# Altium footprint library MyLibrary.PcbLib: 19 footprints (part 1 of 2)
Each footprint in its own frame and in the unit in brackets; x right, y up, seen from the top. Pads: shape width x height; smd on the part's side, far side on the other; paste and mask are expansions set on the pad; w line width, h text height; cw(c..) or ccw(c..) is an arc to the next point about the centre after c.
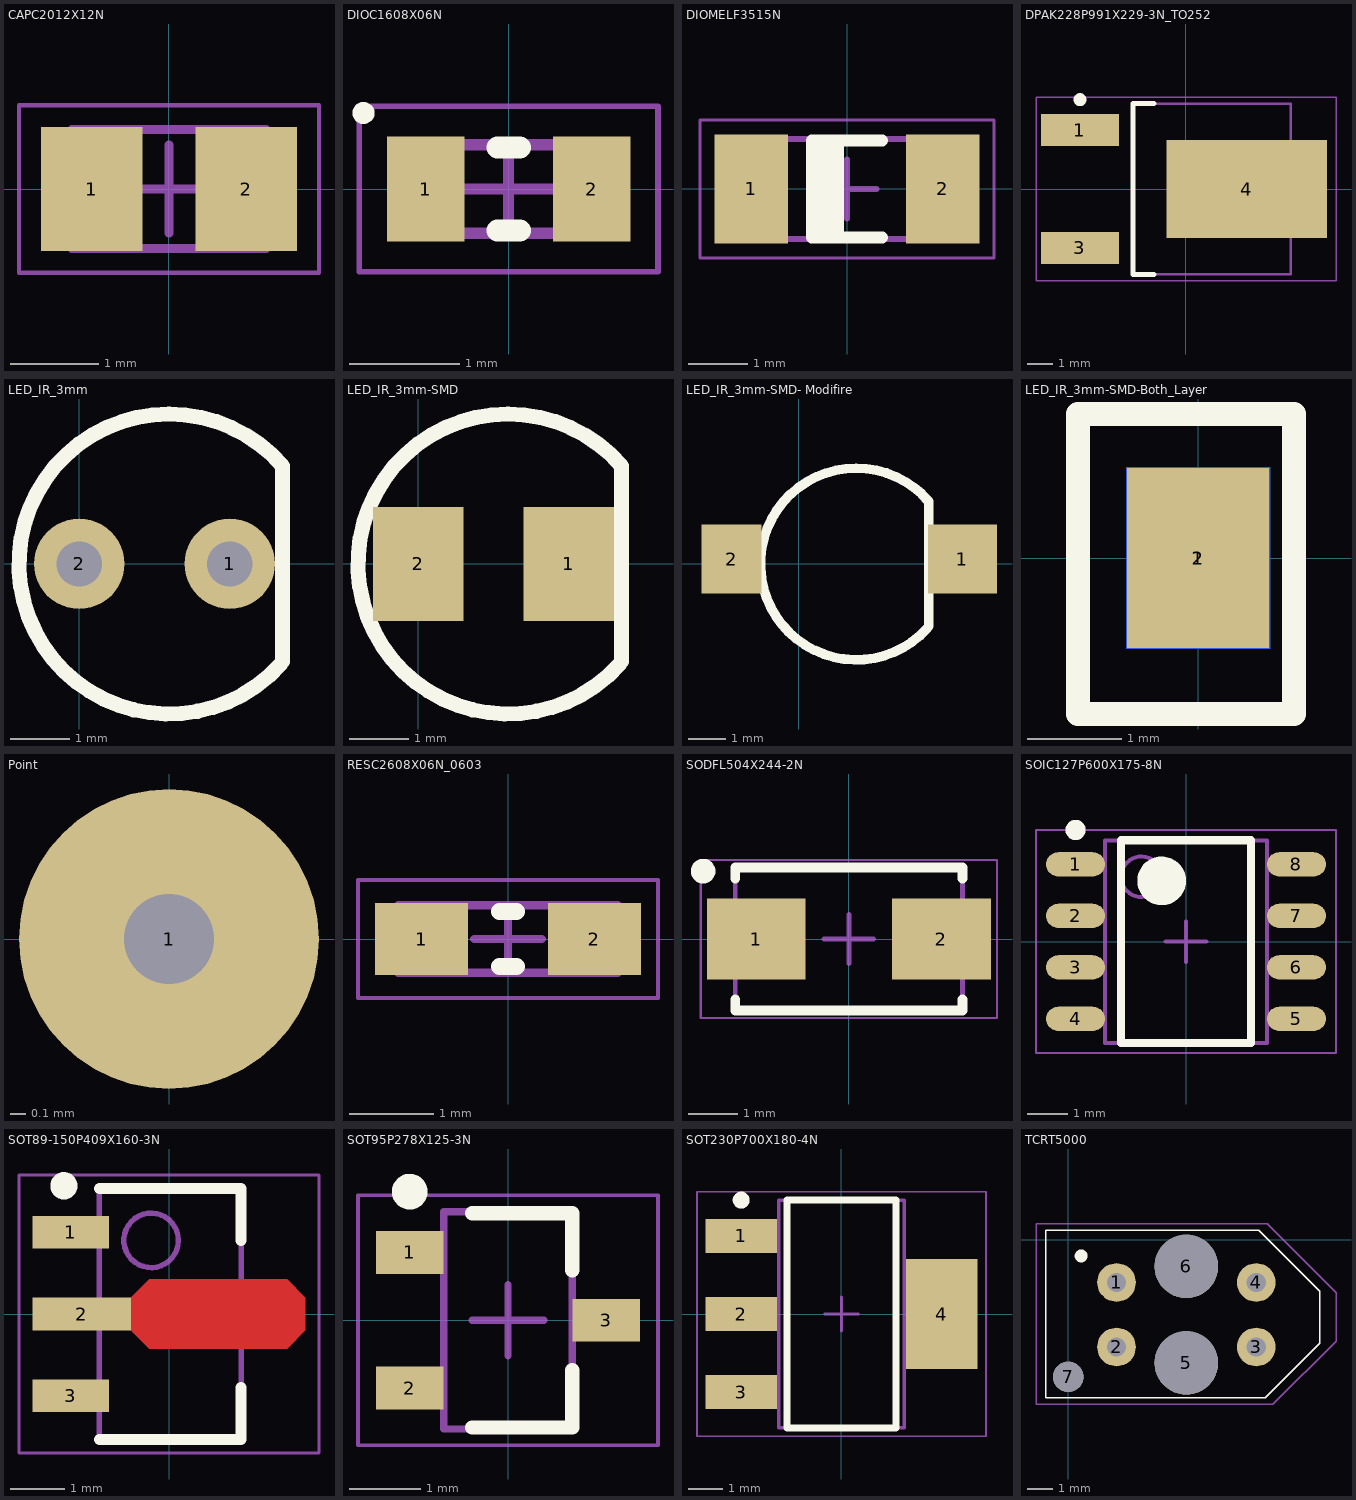
[diagram p0: the footprints below, top view; thin cyan lines are the x and y axes]

## CAPC2012X12N [mm] "Chip Capacitor, 2-Leads, Body 2.00x1.25mm, IPC Medium Density"
height 1.2
pads (2):
  rect 1.15x1.4 smd: 1(-0.875,0) 2(0.875,0)
Mechanical 13:
  lines w0.1: -1.1,-0.675 1.1,-0.675 1.1,0.675 -1.1,0.675 -1.1,-0.675
Mechanical 15:
  lines w0.05: -1.7,-0.95 1.7,-0.95 1.7,0.95 -1.7,0.95 -1.7,-0.95
  lines w0.1: -0.5,0 0.5,0 ; 0,-0.5 0,0.5
3D body: height 1.2, standoff 0, extent 0.6,-0.675 1.1,0.675
3D body: height 1.2, standoff 0, extent -1.1,-0.675 -0.6,0.675
3D body: height 1.2, standoff 0, extent -0.6,-0.675 0.6,0.675

## DIOC1608X06N [mm] "Chip Diode, 2-Leads, Body 1.60x0.80mm, IPC Medium Density"
height 0.6
pads (2):
  rect 0.7x0.95 smd: 1(-0.75,0) 2(0.75,0)
Top Overlay:
  circle w0.1: c-1.312,0.687 r0.05
  lines w0.2: -0.1,-0.375 0.1,-0.375 ; -0.1,0.375 0.1,0.375
Mechanical 13:
  lines w0.1: -0.9,-0.4 0.9,-0.4 0.9,0.4 -0.9,0.4 -0.9,-0.4
Mechanical 15:
  lines w0.05: -1.35,-0.75 1.35,-0.75 1.35,0.75 -1.35,0.75 -1.35,-0.75
  lines w0.1: -0.4,0 0.4,0 ; 0,-0.4 0,0.4
3D body: height 0.6, standoff 0, extent 0.6,-0.4 0.9,0.4
3D body: height 0.6, standoff 0, extent -0.9,-0.4 -0.6,0.4
3D body: height 0.6, standoff 0, extent -0.6,-0.4 0.6,0.4

## DIOMELF3515N [mm] "MELF Diode, 2-Leads, Body 3.50x1.55mm, IPC Medium Density"
height 1.7
pads (2):
  rect 1.25x1.85 smd: 1(-1.625,0) 2(1.625,0)
Top Overlay:
  rectangle: -0.6,-0.825 -0.05,0.825
  lines w0.2: 0.6,-0.825 -0.6,-0.825 -0.6,0.825 0.6,0.825
Mechanical 13:
  lines w0.1: -1.85,-0.85 -1.85,0.85 1.85,0.85 1.85,-0.85 -1.85,-0.85
Mechanical 15:
  lines w0.05: -2.5,-1.175 -2.5,1.175 2.5,1.175 2.5,-1.175 -2.5,-1.175
  lines w0.1: -0.5,0 0.5,0 ; 0,-0.5 0,0.5
3D body: height 1.69, standoff 0, extent -1.85,-0.85 -1.3,0.847
3D body: height 1.68, standoff 0.04, extent -0.7,-0.821 -0.1,0.818
3D body: height 1.68, standoff 0.04, extent -1.3,-0.82 1.3,0.817
3D body: height 1.69, standoff 0, extent 1.3,-0.85 1.85,0.847

## DPAK228P991X229-3N_TO252 [mm] "D-PAK, 3-Pads, Body 6.15x6.65mm (max), IPC Medium Density"
height 2.29
pads (3):
  rect 3x1.25 smd: 1(-4.1,2.28) 3(-4.1,-2.28)
  rect 6.2x3.8 smd: 4(2.35,0)
Top Overlay:
  circle w0.25: c-4.1,3.455 r0.125
  lines w0.2: -1.25,-3.3 -2.05,-3.3 -2.05,3.3 -1.25,3.3
Mechanical 13:
  lines w0.1: -2.05,-3.3 4.05,-3.3 4.05,3.3 -2.05,3.3 -2.05,-3.3
Mechanical 15:
  lines w0.05: -5.8,-3.55 5.8,-3.55 5.8,3.55 -5.8,3.55 -5.8,-3.55
  lines w0.1: -0.5,0 0.5,0 ; 0,-0.5 0,0.5
3D body: height 2.29, standoff 0, extent -2.05,-3.3 4.05,3.3

## LED_IR_3mm [mil] "IR Transmitter and Receiver Led"
height 204.72
pads (2):
  round 60 hole 30: 1(100,0)
  round 60 hole 30 square: 2(0,0)
Top Overlay:
  lines w10: 133.56,-66.85 cw(c59.61,-0.11) 135,65 135,-64.81

## LED_IR_3mm-SMD [mil] "IR Transmitter and Receiver Led"
height 204.72
pads (2):
  rect 60x75.75 smd: 1(100,0) 2(0,0)
Top Overlay:
  lines w10: 133.56,-66.85 cw(c59.61,-0.11) 135,65 135,-64.81

## LED_IR_3mm-SMD- Modifire [mil] "IR Transmitter and Receiver Led"
height 204.72
pads (2):
  rect 71.81x71.81 smd: 1(170,5)
  rect 62.3x71.81 smd: 2(-70,5)
Top Overlay:
  lines w10: 133.56,-66.85 cw(c59.61,-0.11) 135,65 135,-64.81

## LED_IR_3mm-SMD-Both_Layer [mm] "IR Transmitter and Receiver Led"
height 5.2
pads (2):
  rect 1.524x1.924 smd far side: 1(0,0)
  rect 1.5x1.9 smd: 2(0,0)
Top Overlay:
  lines w0.254: -1.27,-1.651 -1.27,1.524 1.016,1.524 1.016,-1.651 -1.27,-1.651
3D body "CircuitWorks-LED DIP 3MM.step": height 1.6, standoff -1.9, extent -1.746,-1.9 6.754,1.9

## Point [mm]
pads (1):
  round 2 hole 0.6: 1(0,0)

## RESC2608X06N_0603 [mm] "Chip Resistor, 2-Leads, Body 2.60x0.80mm, IPC Medium Density"
height 0.6
pads (2):
  rect 1.1x0.85 smd: 1(-1.025,0) 2(1.025,0)
Top Overlay:
  lines w0.2: -0.1,-0.325 0.1,-0.325 ; -0.1,0.325 0.1,0.325
Mechanical 13:
  lines w0.1: -1.3,-0.4 -1.3,0.4 1.3,0.4 1.3,-0.4 -1.3,-0.4
Mechanical 15:
  lines w0.05: -1.778,-0.7 -1.778,0.7 1.778,0.7 1.778,-0.7 -1.778,-0.7
  lines w0.1: -0.4,0 0.4,0 ; 0,-0.4 0,0.4
3D body: height 0.6, standoff 0, extent -0.4,-0.4 0.4,0.4
3D body: height 0.6, standoff 0, extent -1.3,-0.4 -0.4,0.4
3D body: height 0.6, standoff 0, extent 0.4,-0.4 1.3,0.4

## SODFL504X244-2N [mm] "SODFL, 2-Leads, Body 2.70x5.04mm, IPC Medium Density"
height 2.44
pads (2):
  rect 2x1.65 smd: 1(-1.875,0) 2(1.875,0)
Top Overlay:
  circle w0.25: c-2.95,1.375 r0.125
  lines w0.2: -2.3,-1.225 -2.3,-1.45 2.3,-1.45 2.3,-1.225 ; -2.3,1.225 -2.3,1.45 2.3,1.45 2.3,1.225
Mechanical 13:
  lines w0.1: -2.3,-1.45 2.3,-1.45 2.3,1.45 -2.3,1.45 -2.3,-1.45
Mechanical 15:
  lines w0.05: -3,-1.6 3,-1.6 3,1.6 -3,1.6 -3,-1.6
  lines w0.1: -0.5,0 0.5,0 ; 0,-0.5 0,0.5
3D body: height 2.44, standoff 0, extent -2.3,-1.45 2.3,1.45

## SOIC127P600X175-8N [mm] "SOIC, 8-Leads, Body 4.90x3.90mm, Pitch 1.27mm, IPC Medium Density"
height 1.75
pads (8):
  oval 1.45x0.6 smd: 1(-2.725,1.905) 2(-2.725,0.635) 3(-2.725,-0.635) 4(-2.725,-1.905) 5(2.725,-1.905) 6(2.725,-0.635) 7(2.725,0.635) 8(2.725,1.905)
Top Overlay:
  circle w0.6: c-0.6,1.5 r0.3
  circle w0.25: c-2.725,2.755 r0.125
  lines w0.2: -1.6,-2.5 1.6,-2.5 1.6,2.5 -1.6,2.5 -1.6,-2.5
Mechanical 13:
  circle w0.1: c-1.1,1.6 r0.5
  lines w0.1: -2,-2.5 2,-2.5 2,2.5 -2,2.5 -2,-2.5
Mechanical 15:
  lines w0.05: -3.7,-2.75 3.7,-2.75 3.7,2.75 -3.7,2.75 -3.7,-2.75
  lines w0.1: -0.5,0 0.5,0 ; 0,-0.5 0,0.5
3D body: height 1.75, standoff 0.1, extent -2,-2.5 2,2.5

## SOT89-150P409X160-3N [mm] "SOT89, 3-Leads, Body 4.50x2.45mm, Pitch 1.50mm, Lead Span 4.1mm, IPC Medium Density"
height 1.6
pads (3):
  rect 1.4x0.6 smd: 1(-1.8,1.5) 3(-1.8,-1.5)
  rect 1.8x0.6 smd: 2(-1.6,0)
Top Layer:
  region: -0.7,0.3 -0.365,0.635 2.165,0.635 2.5,0.3 2.5,-0.3 2.165,-0.635 -0.365,-0.635 -0.7,-0.3
Top Overlay:
  circle w0.25: c-1.927,2.35 r0.125
  lines w0.2: -1.278,-2.3 1.322,-2.3 1.322,-1.35 ; -1.278,2.3 1.322,2.3 1.322,1.35
Mechanical 13:
  circle w0.1: c-0.327,1.35 r0.5
  lines w0.1: -1.278,-2.3 1.322,-2.3 1.322,2.3 -1.278,2.3 -1.278,-2.3
Mechanical 15:
  lines w0.05: -2.75,-2.55 2.75,-2.55 2.75,2.55 -2.75,2.55 -2.75,-2.55
  lines w0.1: -0.477,0 0.523,0 ; 0.022,-0.5 0.022,0.5
3D body: height 1.6, standoff 0, extent -1.278,-2.3 1.322,2.3

## SOT95P278X125-3N [mm] "SOT23, 3-Leads, Body 2.92x2.78mm, Pitch 0.95mm, IPC Medium Density"
height 1.25
pads (3):
  rect 0.95x0.6 smd: 1(-1.375,0.95) 2(-1.375,-0.95) 3(1.375,0)
Top Overlay:
  circle w0.25: c-1.375,1.8 r0.125
  lines w0.2: -0.5,-1.5 0.9,-1.5 0.9,-0.7 ; -0.5,1.5 0.9,1.5 0.9,0.7
Mechanical 13:
  lines w0.1: -0.9,-1.52 0.9,-1.52 0.9,1.52 -0.9,1.52 -0.9,-1.52
Mechanical 15:
  lines w0.05: -2.1,-1.75 2.1,-1.75 2.1,1.75 -2.1,1.75 -2.1,-1.75
  lines w0.1: -0.5,0 0.5,0 ; 0,-0.5 0,0.5
3D body: height 1.25, standoff 0.05, extent -0.9,-1.52 0.9,1.52

## SOT230P700X180-4N [mm] "SOT223, 4-Leads, Body 6.50x7.00mm (avg), Pitch 2.30mm, IPC Medium Density"
height 1.8
pads (4):
  rect 2.1x1 smd: 1(-2.95,2.3) 2(-2.95,0) 3(-2.95,-2.3)
  rect 2.1x3.25 smd: 4(2.95,0)
Top Overlay:
  circle w0.25: c-2.95,3.35 r0.125
  lines w0.2: -1.6,-3.35 1.6,-3.35 1.6,3.35 -1.6,3.35 -1.6,-3.35
Mechanical 13:
  lines w0.1: -1.85,-3.35 1.85,-3.35 1.85,3.35 -1.85,3.35 -1.85,-3.35
Mechanical 15:
  lines w0.05: -4.25,-3.6 4.25,-3.6 4.25,3.6 -4.25,3.6 -4.25,-3.6
  lines w0.1: -0.5,0 0.5,0 ; 0,-0.5 0,0.5
3D body: height 1.8, standoff 0.02, extent -1.85,-3.35 1.85,3.35

## TCRT5000 [mm] "IR Transmitter And Receiver"
pads (7):
  round 1.524 hole 0.762: 1(1.9,-1.68) 2(1.9,-4.22) 3(7.4,-4.22) 4(7.4,-1.68)
  round 2.5 hole 2.5: 5(4.65,-4.85) 6(4.65,-1.05)
  round 1.2 hole 1.2: 7(0,-5.4)
Top Overlay:
  circle w0.254: c0.508,-0.635 r0.127
  lines w0.05: -0.889,-6.223 -0.889,0.381 7.493,0.381 9.906,-2.032 9.906,-4.064 7.747,-6.223 -0.889,-6.223
Mechanical 15:
  lines w0.05: 7.845,0.606 10.541,-2.091 10.541,-3.995 8.059,-6.477 -1.27,-6.477 -1.27,0.635 7.874,0.635
3D body "User Library-corpo TCRT 5000.step": height 1.5, standoff -9, extent -0.508,-6.321 9.692,0.479